# Altium schematic symbol library YS_STM32F407_MC.SCHLIB: 48 symbols
Pins are listed as number, name and electrical type; pins without a type are passive.

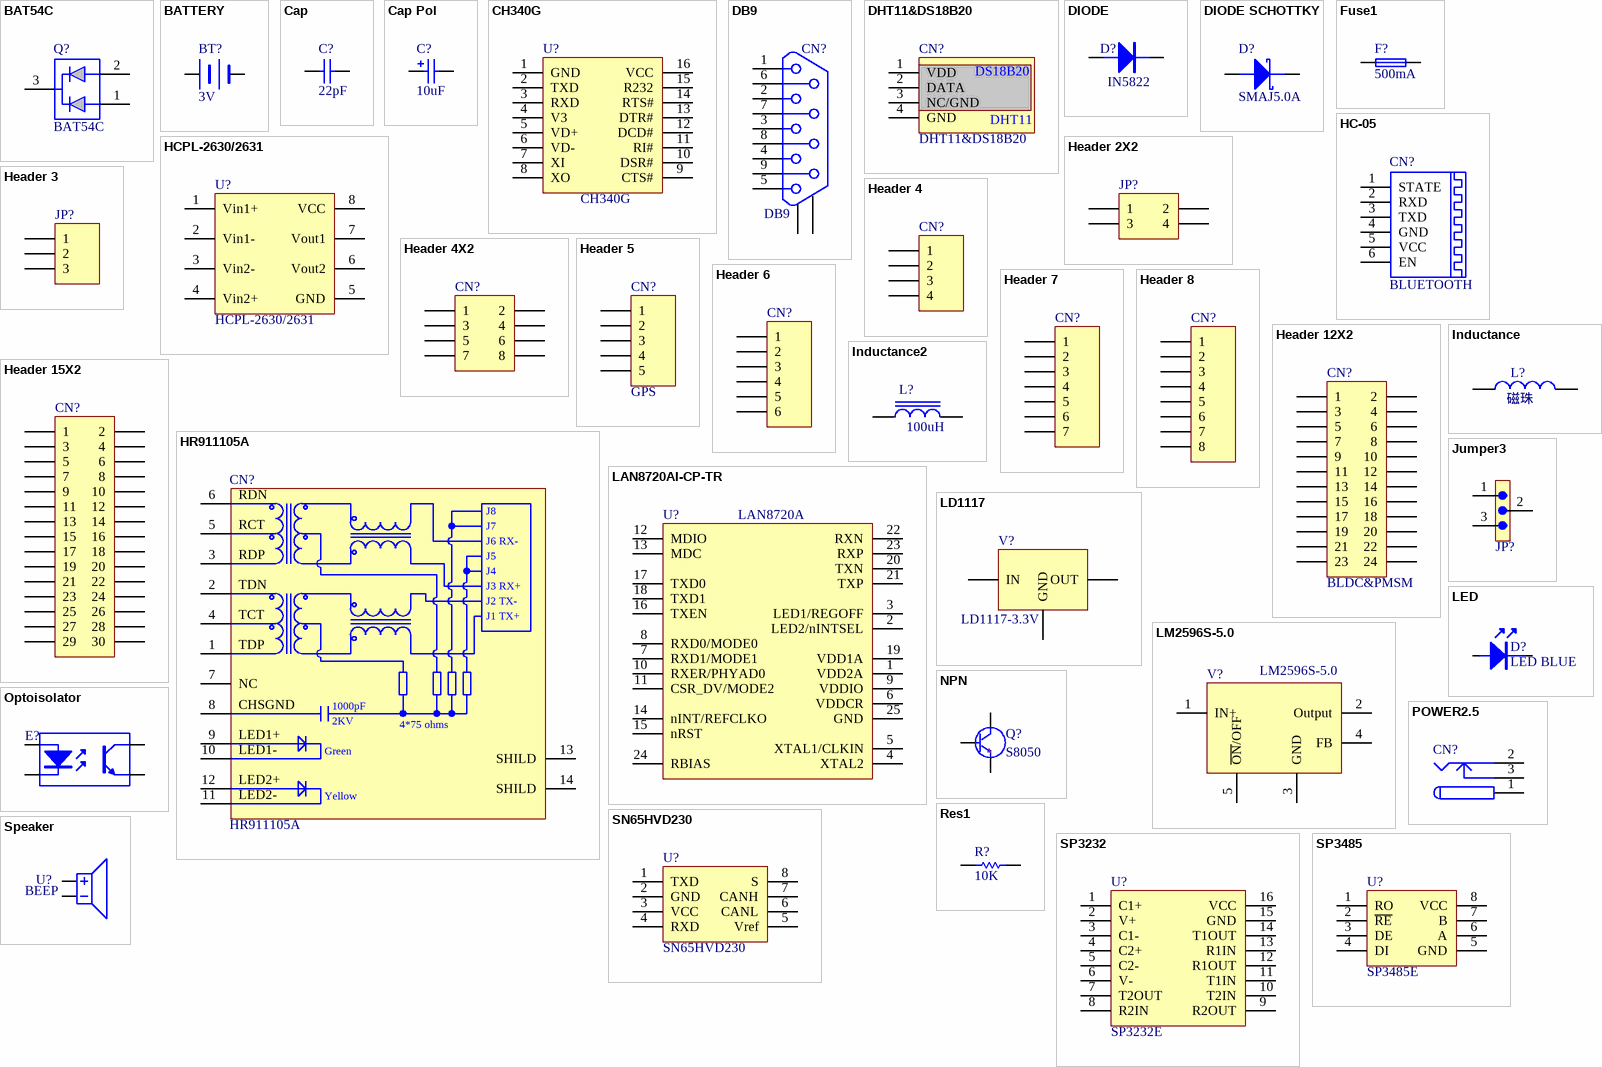
[diagram p0: symbols BAT54C to Speaker]

## BAT54C
designator Q?
BAT54C/KL3
footprint SOT-23-3L
pins: 1 DIODE1, 2 DIODE2, 3 COM_CATHODE

## BATTERY
designator BT?  value 3V  (hidden comment: BATTERY)
footprint BATERY
pins: 1 +, 2 -

## Cap
designator C?  value 22pF  (hidden comment: Cap)
Capacitor; Published: 8-Jun-2000; LatestRevisionDate: 17-Jul-2002; LatestRevisionNote: Re-released for DXP Platform.; Publisher: Altium Limited
simulation model CAP (Capacitor)
signal-integrity model Cap
footprint 0603
pins: 1, 2

## Cap Pol
designator C?  value 10uF  (hidden comment: Cap Pol)
Polarized Capacitor (Radial); Published: 8-Jun-2000; LatestRevisionDate: 17-Jul-2002; LatestRevisionNote: Re-released for DXP Platform.; Publisher: Altium Limited
simulation model CAP (Capacitor)
signal-integrity model Cap Pol
footprint 1812D
footprint AVX_A_3216
pins: 1, 2
1 alternate drawing of the same symbol

## CH340G
designator U?
footprint SOIC16_39MM
pins: 1 GND, 2 TXD, 3 RXD, 4 V3, 5 VD+, 6 VD-, 7 XI, 8 XO, 9 CTS#, 10 DSR#, 11 RI#, 12 DCD#, 13 DTR#, 14 RTS#, 15 R232, 16 VCC

## DB9
designator CN?
footprint DSUB1.385-2H9 (Connector; D Subminiature; 9 Position; Right Angle; Pitch 1.385 mm)
footprint CON-JH-9P/SC/R-JL
pins: 0, 0, 1, 2, 3, 4, 5, 6, 7, 8, 9

## DHT11&DS18B20
designator CN?
humiture sensor
footprint DHT11&DS18B20
pins: 1 VDD, 2 DATA, 3 NC/GND, 4 GND
text: DS18B20; DHT11

## DIODE
designator D?, comment IN5822
Diode
footprint SMA
pins: 1 A, 2 K

## DIODE SCHOTTKY
designator D?, comment SMAJ5.0A
Schottky Diode
footprint SMA
pins: 1 A, 2 K

## Fuse1
designator F?, comment value 500mA  (hidden comment: Fuse)
footprint FUSE_1812
pins: 1, 2

## HC-05
designator CN?, comment BLUETOOTH
HC-05_BLUETOOTH
footprint CON1X6(2.54mm) - M (Connector; Header; 6 Position)
pins: 1 STATE, 2 RXD, 3 TXD, 4 GND, 5 VCC, 6 EN

## HCPL-2630/2631
designator U?
SMT Dual Channel High Speed 10 MB/s Logic Gate Optocoupler
footprint SMD-8_6.3mm
pins: 1 Vin1+, 2 Vin1-, 3 Vin2-, 4 Vin2+, 5 GND, 6 Vout2, 7 Vout1, 8 VCC

## Header 2X2
designator JP?  (value not drawn)
Header, 2-Pin, Dual row; LatestRevisionDate: 17-Jul-2002; LatestRevisionNote: Re-released for DXP Platform.; Publisher: Altium Limited
footprint CON2X2(2.54mm)
signal-integrity model Connector
pins: 1, 2, 3, 4

## Header 3
designator JP?  (value not drawn)
Header, 3-Pin; LatestRevisionDate: 17-Jul-2002; LatestRevisionNote: Re-released for DXP Platform.; Publisher: Altium Limited
footprint CON1X3(2.54mm) (Connector; Header; 3 Position)
signal-integrity model Connector
pins: 1, 2, 3

## Header 4
designator CN?  (value not drawn)
Header, 4-Pin; LatestRevisionDate: 17-Jul-2002; LatestRevisionNote: Re-released for DXP Platform.; Publisher: Altium Limited
footprint XH2.54-4P
signal-integrity model Connector
pins: 1, 2, 3, 4

## Header 4X2
designator CN?  (value not drawn)
Header, 4-Pin, Dual row; LatestRevisionDate: 17-Jul-2002; LatestRevisionNote: Re-released for DXP Platform.; Publisher: Altium Limited
footprint CON2X4(2.54MM)
signal-integrity model Connector
pins: 1, 2, 3, 4, 5, 6, 7, 8

## Header 5
designator CN?, comment GPS
Header, 5-Pin; LatestRevisionDate: 17-Jul-2002; LatestRevisionNote: Re-released for DXP Platform.; Publisher: Altium Limited
footprint CON1X5(2.54mm) (Connector; Header; 5 Position)
signal-integrity model Connector
pins: 1, 2, 3, 4, 5

## Header 6
designator CN?  (value not drawn)
Header, 6-Pin; LatestRevisionDate: 17-Jul-2002; LatestRevisionNote: Re-released for DXP Platform.; Publisher: Altium Limited
footprint CON1X6(2.54mm) (Connector; Header; 6 Position)
signal-integrity model Connector
footprint XH2.54-6P_MCUSWD
footprint XH2.54-6P
pins: 1, 2, 3, 4, 5, 6

## Header 7
designator CN?  (value not drawn)
Header, 7-Pin; LatestRevisionDate: 17-Jul-2002; LatestRevisionNote: Re-released for DXP Platform.; Publisher: Altium Limited
footprint EDG3.81_7P
signal-integrity model Connector
pins: 1, 2, 3, 4, 5, 6, 7

## Header 8
designator CN?  (value not drawn)
Header, 8-Pin; LatestRevisionDate: 17-Jul-2002; LatestRevisionNote: Re-released for DXP Platform.; Publisher: Altium Limited
footprint EDG3.81_8P
signal-integrity model Connector
pins: 1, 2, 3, 4, 5, 6, 7, 8

## Header 12X2
designator CN?, comment BLDC&PMSM
Header, 12-Pin, Dual row; LatestRevisionDate: 17-Jul-2002; LatestRevisionNote: Re-released for DXP Platform.; Publisher: Altium Limited
footprint DC3-24P
signal-integrity model Connector
pins: 1, 2, 3, 4, 5, 6, 7, 8, 9, 10, 11, 12, 13, 14, 15, 16, 17, 18, 19, 20, 21, 22, 23, 24

## Header 15X2
designator CN?  (value not drawn)
Header, 15-Pin, Dual row; LatestRevisionDate: 17-Jul-2002; LatestRevisionNote: Re-released for DXP Platform.; Publisher: Altium Limited
footprint LCD_Module_30pin_LINE
signal-integrity model Connector
pins: 1, 2, 3, 4, 5, 6, 7, 8, 9, 10, 11, 12, 13, 14, 15, 16, 17, 18, 19, 20, 21, 22, 23, 24, 25, 26, 27, 28, 29, 30

## HR911105A
designator CN?
footprint HR911105A
pins: 1 TD+, 2 TD-, 3 RD+, 4 TCT, 5 RCT, 6 RD-, 7 NC, 8 CHS, 9 LED1+, 10 LED1-, 11 LED2-, 12 LED2+, 13 SHILD, 14 SHILD
text: RDN; J8; J7; J6 RX-; RDP; J5; J4; TDN; J3 RX+; J2 TX-; J1 TX+; TDP; CHSGND; 1000pF; 2KV; 4*75 ohms; Green; Yellow

## Inductance
designator L?  value 磁珠  (hidden comment: Inductance)
footprint 0805
footprint 0805
pins: 1, 2

## Inductance2
designator L?  value 100uH  (hidden comment: Inductance2)
footprint L-SMT-7X7
pins: 1, 2

## Jumper3
designator JP?  (value not drawn)
footprint CON1X3(2.54mm) (Connector; Header; 3 Position)
footprint CON1X3(2.54mm) (Connector; Header; 3 Position)
pins: 1 3, 2 4, 3 5

## LAN8720AI-CP-TR
designator U?, comment LAN8720A
ETH PHY
footprint QFN-4x4x05P_LAN8720A
pins: 1 VDD2A, 2 LED2/nINTSEL, 3 LED1/REGOFF, 4 XTAL2, 5 XTAL1/CLKIN, 6 VDDCR, 7 RXD1/MODE1, 8 RXD0/MODE0, 9 VDDIO, 10 RXER/PHYAD0, 11 CSR_DV/MODE2, 12 MDIO, 13 MDC, 14 nINT/REFCLKO, 15 nRST, 16 TXEN, 17 TXD0, 18 TXD1, 19 VDD1A, 20 TXN, 21 TXP, 22 RXN, 23 RXP, 24 RBIAS, 25 GND

## LD1117
designator V?, comment LD1117-3.3V
LDO
footprint TO-252-2
pins: 1 GND, 2 OUT, 3 IN

## LED
designator D?, comment LED BLUE
footprint 0603D
pins: 1, 2

## LM2596S-5.0
designator V?
DC DC 5V
footprint TO-263-5L
pins: 1 IN+, 2 Output, 3 GND, 4 FB, 5 ~{ON}/OFF

## NPN
designator Q?, comment S8050
footprint SOT-23-3L
pins: 1 B, 2 E, 3 C

## Optoisolator
designator E?  (value not drawn)
PC817
footprint SMD-4
pins: 1 Anode, 2 Cathode, 3 Emitter, 4 Collector

## POWER2.5
designator CN?  (value not drawn)
Low Voltage Power Supply Connector; Published: 17-Dec-2003; DatasheetDocument: 09-May-2002; Publisher: Altium Limited
footprint CON-DS210/SC/3-JL
signal-integrity model Connector
pins: 1 (power), 2 (power), 3 (power)

## Res1
designator R?  value 10K  (hidden comment: Res1)
Resistor; Published: 8-Jun-2000; LatestRevisionDate: 17-Jul-2002; LatestRevisionNote: Re-released for DXP Platform.; Publisher: Altium Limited
simulation model RESISTOR (Resistor)
signal-integrity model Res
footprint 0603
pins: 1, 2

## SN65HVD230
designator U?
CAN
footprint SOIC8_39MM
pins: 1 TXD, 2 GND, 3 VCC, 4 RXD, 5 Vref, 6 CANL, 7 CANH, 8 S

## SP3232
designator U?, comment SP3232E
footprint SOIC16_39MM
pins: 1 C1+, 2 V+, 3 C1-, 4 C2+, 5 C2-, 6 V-, 7 T2OUT, 8 R2IN, 9 R2OUT, 10 T2IN, 11 T1IN, 12 R1OUT, 13 R1IN, 14 T1OUT, 15 GND, 16 VCC

## SP3485
designator U?, comment SP3485E
footprint SOIC8_39MM
pins: 1 RO, 2 ~{RE}, 3 DE, 4 DI, 5 GND, 6 A, 7 B, 8 VCC

## Speaker
designator U?, comment BEEP
footprint BEEP-9.5X5.5
pins: 1 P, 2 G

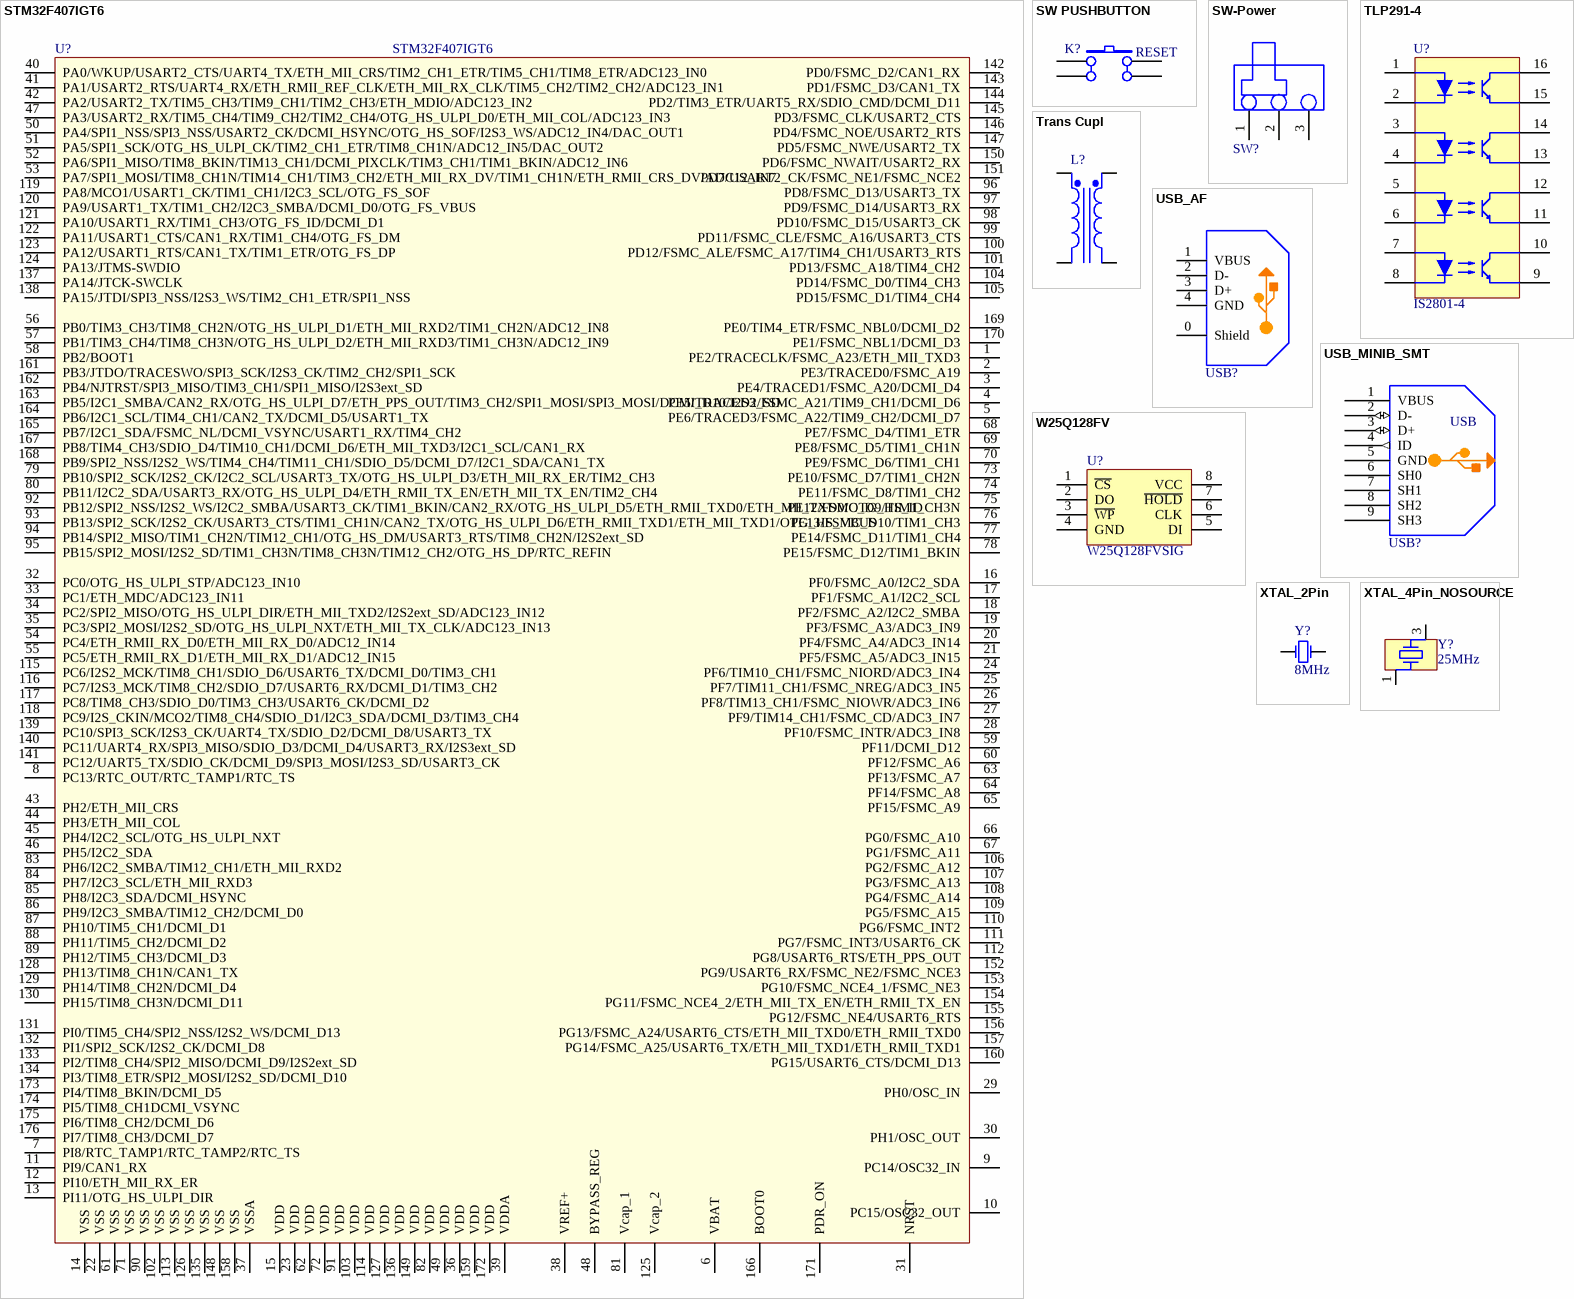
[diagram p1: symbols STM32F407IGT6 to XTAL_4Pin_NOSOURCE]

## STM32F407IGT6
designator U?
STM32 Series 32-bit 1 MB Flash 192 kB RAM ARM Based Microcontroller - LQFP-176
footprint LQFP176-STM32F407
pins: 1 PE2/TRACECLK/FSMC_A23/ETH_MII_TXD3, 2 PE3/TRACED0/FSMC_A19, 3 PE4/TRACED1/FSMC_A20/DCMI_D4, 4 PE5/TRACED2/FSMC_A21/TIM9_CH1/DCMI_D6, 5 PE6/TRACED3/FSMC_A22/TIM9_CH2/DCMI_D7, 6 VBAT, 7 PI8/RTC_TAMP1/RTC_TAMP2/RTC_TS, 8 PC13/RTC_OUT/RTC_TAMP1/RTC_TS, 9 PC14/OSC32_IN, 10 PC15/OSC32_OUT, 11 PI9/CAN1_RX, 12 PI10/ETH_MII_RX_ER, 13 PI11/OTG_HS_ULPI_DIR, 14 VSS, 15 VDD, 16 PF0/FSMC_A0/I2C2_SDA, 17 PF1/FSMC_A1/I2C2_SCL, 18 PF2/FSMC_A2/I2C2_SMBA, 19 PF3/FSMC_A3/ADC3_IN9, 20 PF4/FSMC_A4/ADC3_IN14, 21 PF5/FSMC_A5/ADC3_IN15, 22 VSS, 23 VDD, 24 PF6/TIM10_CH1/FSMC_NIORD/ADC3_IN4, 25 PF7/TIM11_CH1/FSMC_NREG/ADC3_IN5, 26 PF8/TIM13_CH1/FSMC_NIOWR/ADC3_IN6, 27 PF9/TIM14_CH1/FSMC_CD/ADC3_IN7, 28 PF10/FSMC_INTR/ADC3_IN8, 29 PH0/OSC_IN, 30 PH1/OSC_OUT, 31 NRST, 32 PC0/OTG_HS_ULPI_STP/ADC123_IN10, 33 PC1/ETH_MDC/ADC123_IN11, 34 PC2/SPI2_MISO/OTG_HS_ULPI_DIR/ETH_MII_TXD2/I2S2ext_SD/ADC123_IN12, 35 PC3/SPI2_MOSI/I2S2_SD/OTG_HS_ULPI_NXT/ETH_MII_TX_CLK/ADC123_IN13, 36 VDD, 37 VSSA, 38 VREF+, 39 VDDA, 40 PA0/WKUP/USART2_CTS/UART4_TX/ETH_MII_CRS/TIM2_CH1_ETR/TIM5_CH1/TIM8_ETR/ADC123_IN0, 41 PA1/USART2_RTS/UART4_RX/ETH_RMII_REF_CLK/ETH_MII_RX_CLK/TIM5_CH2/TIM2_CH2/ADC123_IN1, 42 PA2/USART2_TX/TIM5_CH3/TIM9_CH1/TIM2_CH3/ETH_MDIO/ADC123_IN2, 43 PH2/ETH_MII_CRS, 44 PH3/ETH_MII_COL, 45 PH4/I2C2_SCL/OTG_HS_ULPI_NXT, 46 PH5/I2C2_SDA, 47 PA3/USART2_RX/TIM5_CH4/TIM9_CH2/TIM2_CH4/OTG_HS_ULPI_D0/ETH_MII_COL/ADC123_IN3, 48 BYPASS_REG, 49 VDD, 50 PA4/SPI1_NSS/SPI3_NSS/USART2_CK/DCMI_HSYNC/OTG_HS_SOF/I2S3_WS/ADC12_IN4/DAC_OUT1, 51 PA5/SPI1_SCK/OTG_HS_ULPI_CK/TIM2_CH1_ETR/TIM8_CH1N/ADC12_IN5/DAC_OUT2, 52 PA6/SPI1_MISO/TIM8_BKIN/TIM13_CH1/DCMI_PIXCLK/TIM3_CH1/TIM1_BKIN/ADC12_IN6, 53 PA7/SPI1_MOSI/TIM8_CH1N/TIM14_CH1/TIM3_CH2/ETH_MII_RX_DV/TIM1_CH1N/ETH_RMII_CRS_DV/ADC12_IN7, 54 PC4/ETH_RMII_RX_D0/ETH_MII_RX_D0/ADC12_IN14, 55 PC5/ETH_RMII_RX_D1/ETH_MII_RX_D1/ADC12_IN15, 56 PB0/TIM3_CH3/TIM8_CH2N/OTG_HS_ULPI_D1/ETH_MII_RXD2/TIM1_CH2N/ADC12_IN8, 57 PB1/TIM3_CH4/TIM8_CH3N/OTG_HS_ULPI_D2/ETH_MII_RXD3/TIM1_CH3N/ADC12_IN9, 58 PB2/BOOT1, 59 PF11/DCMI_D12, 60 PF12/FSMC_A6, 61 VSS, 62 VDD, 63 PF13/FSMC_A7, 64 PF14/FSMC_A8, 65 PF15/FSMC_A9, 66 PG0/FSMC_A10, 67 PG1/FSMC_A11, 68 PE7/FSMC_D4/TIM1_ETR, 69 PE8/FSMC_D5/TIM1_CH1N, 70 PE9/FSMC_D6/TIM1_CH1, 71 VSS, 72 VDD, 73 PE10/FSMC_D7/TIM1_CH2N, 74 PE11/FSMC_D8/TIM1_CH2, 75 PE12/FSMC_D9/TIM1_CH3N, 76 PE13/FSMC_D10/TIM1_CH3, 77 PE14/FSMC_D11/TIM1_CH4, 78 PE15/FSMC_D12/TIM1_BKIN, 79 PB10/SPI2_SCK/I2S2_CK/I2C2_SCL/USART3_TX/OTG_HS_ULPI_D3/ETH_MII_RX_ER/TIM2_CH3, 80 PB11/I2C2_SDA/USART3_RX/OTG_HS_ULPI_D4/ETH_RMII_TX_EN/ETH_MII_TX_EN/TIM2_CH4, 81 Vcap_1, 82 VDD, 83 PH6/I2C2_SMBA/TIM12_CH1/ETH_MII_RXD2, 84 PH7/I2C3_SCL/ETH_MII_RXD3, 85 PH8/I2C3_SDA/DCMI_HSYNC, 86 PH9/I2C3_SMBA/TIM12_CH2/DCMI_D0, 87 PH10/TIM5_CH1/DCMI_D1, 88 PH11/TIM5_CH2/DCMI_D2, 89 PH12/TIM5_CH3/DCMI_D3, 90 VSS, 91 VDD, 92 PB12/SPI2_NSS/I2S2_WS/I2C2_SMBA/USART3_CK/TIM1_BKIN/CAN2_RX/OTG_HS_ULPI_D5/ETH_RMII_TXD0/ETH_MII_TXD0/OTG_HS_ID, 93 PB13/SPI2_SCK/I2S2_CK/USART3_CTS/TIM1_CH1N/CAN2_TX/OTG_HS_ULPI_D6/ETH_RMII_TXD1/ETH_MII_TXD1/OTG_HS_VBUS, 94 PB14/SPI2_MISO/TIM1_CH2N/TIM12_CH1/OTG_HS_DM/USART3_RTS/TIM8_CH2N/I2S2ext_SD, 95 PB15/SPI2_MOSI/I2S2_SD/TIM1_CH3N/TIM8_CH3N/TIM12_CH2/OTG_HS_DP/RTC_REFIN, 96 PD8/FSMC_D13/USART3_TX, 97 PD9/FSMC_D14/USART3_RX, 98 PD10/FSMC_D15/USART3_CK, 99 PD11/FSMC_CLE/FSMC_A16/USART3_CTS, 100 PD12/FSMC_ALE/FSMC_A17/TIM4_CH1/USART3_RTS, 101 PD13/FSMC_A18/TIM4_CH2, 102 VSS, 103 VDD, 104 PD14/FSMC_D0/TIM4_CH3, 105 PD15/FSMC_D1/TIM4_CH4, 106 PG2/FSMC_A12, 107 PG3/FSMC_A13, 108 PG4/FSMC_A14, 109 PG5/FSMC_A15, 110 PG6/FSMC_INT2, 111 PG7/FSMC_INT3/USART6_CK, 112 PG8/USART6_RTS/ETH_PPS_OUT, 113 VSS, 114 VDD, 115 PC6/I2S2_MCK/TIM8_CH1/SDIO_D6/USART6_TX/DCMI_D0/TIM3_CH1, 116 PC7/I2S3_MCK/TIM8_CH2/SDIO_D7/USART6_RX/DCMI_D1/TIM3_CH2, 117 PC8/TIM8_CH3/SDIO_D0/TIM3_CH3/USART6_CK/DCMI_D2, 118 PC9/I2S_CKIN/MCO2/TIM8_CH4/SDIO_D1/I2C3_SDA/DCMI_D3/TIM3_CH4, 119 PA8/MCO1/USART1_CK/TIM1_CH1/I2C3_SCL/OTG_FS_SOF, 120 PA9/USART1_TX/TIM1_CH2/I2C3_SMBA/DCMI_D0/OTG_FS_VBUS, 121 PA10/USART1_RX/TIM1_CH3/OTG_FS_ID/DCMI_D1, 122 PA11/USART1_CTS/CAN1_RX/TIM1_CH4/OTG_FS_DM, 123 PA12/USART1_RTS/CAN1_TX/TIM1_ETR/OTG_FS_DP, 124 PA13/JTMS-SWDIO, 125 Vcap_2, 126 VSS, 127 VDD, 128 PH13/TIM8_CH1N/CAN1_TX, 129 PH14/TIM8_CH2N/DCMI_D4, 130 PH15/TIM8_CH3N/DCMI_D11, 131 PI0/TIM5_CH4/SPI2_NSS/I2S2_WS/DCMI_D13, 132 PI1/SPI2_SCK/I2S2_CK/DCMI_D8, 133 PI2/TIM8_CH4/SPI2_MISO/DCMI_D9/I2S2ext_SD, 134 PI3/TIM8_ETR/SPI2_MOSI/I2S2_SD/DCMI_D10, 135 VSS, 136 VDD, 137 PA14/JTCK-SWCLK, 138 PA15/JTDI/SPI3_NSS/I2S3_WS/TIM2_CH1_ETR/SPI1_NSS, 139 PC10/SPI3_SCK/I2S3_CK/UART4_TX/SDIO_D2/DCMI_D8/USART3_TX, 140 PC11/UART4_RX/SPI3_MISO/SDIO_D3/DCMI_D4/USART3_RX/I2S3ext_SD, 141 PC12/UART5_TX/SDIO_CK/DCMI_D9/SPI3_MOSI/I2S3_SD/USART3_CK, 142 PD0/FSMC_D2/CAN1_RX, 143 PD1/FSMC_D3/CAN1_TX, 144 PD2/TIM3_ETR/UART5_RX/SDIO_CMD/DCMI_D11, 145 PD3/FSMC_CLK/USART2_CTS, 146 PD4/FSMC_NOE/USART2_RTS, 147 PD5/FSMC_NWE/USART2_TX, 148 VSS, 149 VDD, 150 PD6/FSMC_NWAIT/USART2_RX, 151 PD7/USART2_CK/FSMC_NE1/FSMC_NCE2, 152 PG9/USART6_RX/FSMC_NE2/FSMC_NCE3, 153 PG10/FSMC_NCE4_1/FSMC_NE3, 154 PG11/FSMC_NCE4_2/ETH_MII_TX_EN/ETH_RMII_TX_EN, 155 PG12/FSMC_NE4/USART6_RTS, 156 PG13/FSMC_A24/USART6_CTS/ETH_MII_TXD0/ETH_RMII_TXD0, 157 PG14/FSMC_A25/USART6_TX/ETH_MII_TXD1/ETH_RMII_TXD1, 158 VSS, 159 VDD, 160 PG15/USART6_CTS/DCMI_D13, 161 PB3/JTDO/TRACESWO/SPI3_SCK/I2S3_CK/TIM2_CH2/SPI1_SCK, 162 PB4/NJTRST/SPI3_MISO/TIM3_CH1/SPI1_MISO/I2S3ext_SD, 163 PB5/I2C1_SMBA/CAN2_RX/OTG_HS_ULPI_D7/ETH_PPS_OUT/TIM3_CH2/SPI1_MOSI/SPI3_MOSI/DCMI_D10/I2S3_SD, 164 PB6/I2C1_SCL/TIM4_CH1/CAN2_TX/DCMI_D5/USART1_TX, 165 PB7/I2C1_SDA/FSMC_NL/DCMI_VSYNC/USART1_RX/TIM4_CH2, 166 BOOT0, 167 PB8/TIM4_CH3/SDIO_D4/TIM10_CH1/DCMI_D6/ETH_MII_TXD3/I2C1_SCL/CAN1_RX, 168 PB9/SPI2_NSS/I2S2_WS/TIM4_CH4/TIM11_CH1/SDIO_D5/DCMI_D7/I2C1_SDA/CAN1_TX, 169 PE0/TIM4_ETR/FSMC_NBL0/DCMI_D2, 170 PE1/FSMC_NBL1/DCMI_D3, 171 PDR_ON, 172 VDD, 173 PI4/TIM8_BKIN/DCMI_D5, 174 PI5/TIM8_CH1DCMI_VSYNC, 175 PI6/TIM8_CH2/DCMI_D6, 176 PI7/TIM8_CH3/DCMI_D7

## SW PUSHBUTTON
designator K?, comment RESET
SE PUSHBUTTON
footprint KEY-6S
pins: 1 A0, 2 B0, 3 B1, 4 A1

## SW-Power
designator SW?  (value not drawn)
footprint SW/SS-12F45
pins: 1, 2, 3

## TLP291-4
designator U?, comment IS2801-4
Photocouplers GaAs Infrared LED & Photo Transistor
footprint SOP-16_150mil_TLP291-4
pins: 1 Anode1, 2 Cathode1, 3 Anode2, 4 Cathode2, 5 Anode3, 6 Cathode3, 7 Anode4, 8 Cathode4, 9 Emitter4, 10 Collector4, 11 Emitter3, 12 Collector3, 13 Emitter2, 14 Collector2, 15 Emitter1, 16 Collector1

## Trans Cupl
designator L?
Transformer (Coupled Inductor Model); Published: 8-Jun-2000; LatestRevisionDate: 17-Jul-2002; LatestRevisionNote: Re-released for DXP Platform.; PackageReference: TRF_4; Publisher: Altium Limited; PackageDescription: Transformer; 4 Leads
footprint uu9.8_5mH
simulation model TRANSFORMER (Transformer)
pins: 1 Pri+, 2 Pri-, 3 Sec+, 4 Sec-

## USB_AF
designator USB?, comment USB_A  (value not drawn)
USB_A side
footprint USB-A-4P(SIDE)
pins: 0 Shield, 1 VBUS, 2 D-, 3 D+, 4 GND (power)

## USB_MINIB_SMT
designator USB?  (value not drawn)
MiniUSB; Text Field1: 100; Text Field2: 80; 物料代码: 1.10.05.0024; 名称: USB插座; 型号: MiniUSB-B,5P/F,7.6×9×4,SMD; 贴片和直插: SMT; Value: MiniUSB-B,5P/F; RoHS: RoHS; ComponentLink1Description: ErpDataInfo; ComponentLink1URL: http://erp.zlgmcu.com/ErpExt/ErpData/ListMateriel.aspx?pkey=1.10.05.0024
footprint USB-MINI
pins: 1 VBUS, 2 D- (io), 3 D+ (io), 4 ID (out), 5 GND (power), 6 SH0, 7 SH1, 8 SH2, 9 SH3
text: USB

## W25Q128FV
designator U?, comment W25Q128FVSIG
footprint SOIC8_53MM
pins: 1 ~{CS}, 2 DO, 3 ~{WP}, 4 GND, 5 DI, 6 CLK, 7 ~{HOLD}, 8 VCC

## XTAL_2Pin
designator Y?  value 8MHz  (hidden comment: XTAL_2Pin)
Crystal Oscillator; Published: 8-Jun-2000; LatestRevisionDate: 17-Jul-2002; LatestRevisionNote: Re-released for DXP Platform.; Publisher: Altium Limited
footprint SMD-5032_2P
simulation model XTAL (Spice Subcircuit)
pins: 1 OSC1, 2 OSC2

## XTAL_4Pin_NOSOURCE
designator Y?, comment value 25MHz  (hidden comment: NOSOURCE)
footprint XTAL_SMD4_32X25
pins: 1, 3